# EAGLE library part FM24V (library Simplex-ICs)
CYPRESS FM24Vxx serial f-ram
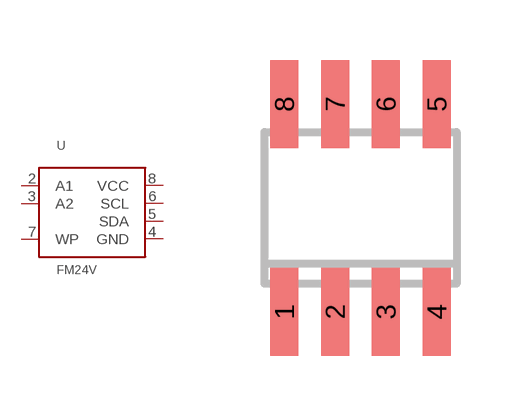
[diagram p9: symbol with the pads of SO-08; footprint SO-08]

Designator prefix -

## FM24V  [SO-08]
2  A1
3  A2
4  GND
5  SDA
6  SCL
7  WP
8  VCC

## Footprint SO-08 (pad centres in mm)
D (R-PDSO-G8) Plastic Small Outline Package Source: http://focus.ti.com/lit/ds/symlink/sn65als176.pdf
smd 0.7 x 2.2: 1 -1.905,-2.6; 2 -0.635,-2.6; 3 0.635,-2.6; 4 1.905,-2.6; 5 1.905,2.6; 6 0.635,2.6; 7 -0.635,2.6; 8 -1.905,2.6